# Altium footprint library light_driver.PcbLib: 26 footprints (part 1 of 2)
Each footprint in its own frame and in the unit in brackets; x right, y up, seen from the top. Pads: shape width x height; smd on the part's side, far side on the other; paste and mask are expansions set on the pad; w line width, h text height; cw(c..) or ccw(c..) is an arc to the next point about the centre after c.
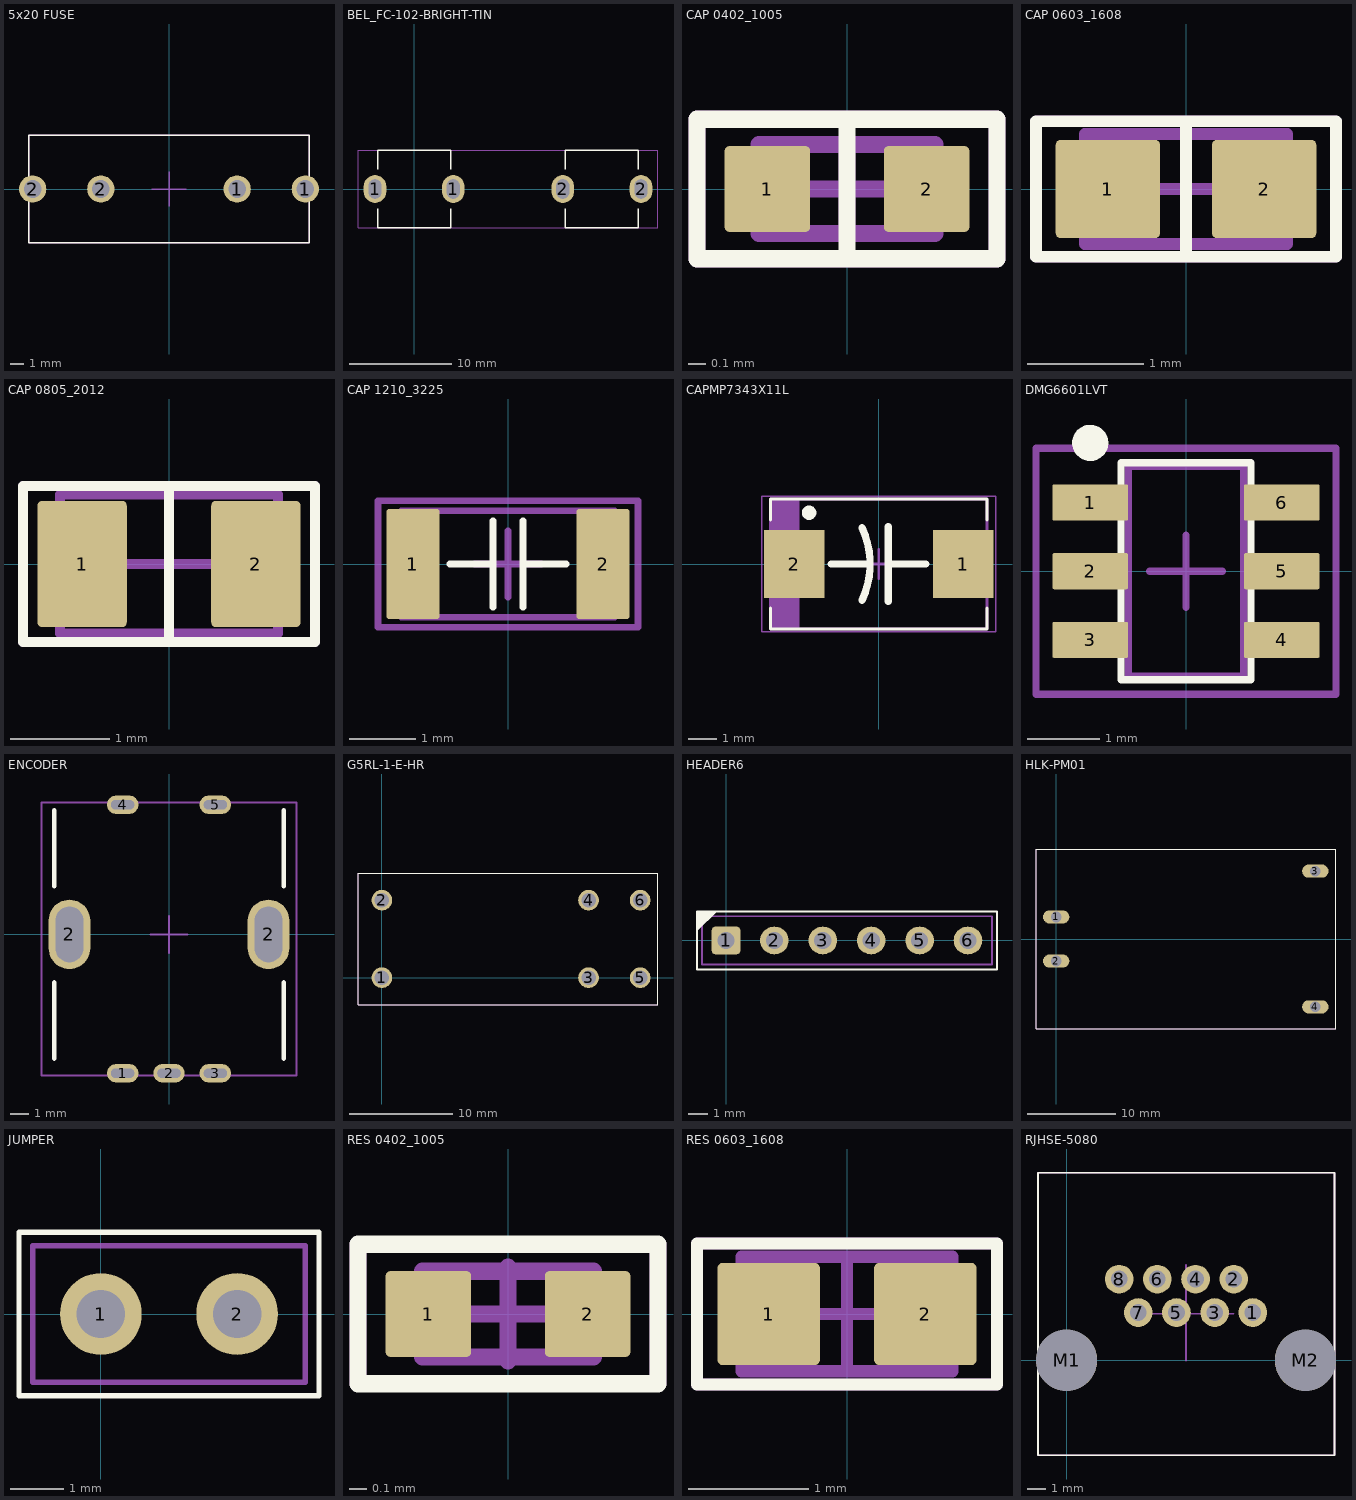
[diagram p0: the footprints below, top view; thin cyan lines are the x and y axes]

## 5x20 FUSE [mm] "5x20 FUSE, 5A, 240v, speed F"
height 8
pads (4):
  round 2 hole 1.3: 1(5,0) 1(10,0) 2(-10,0) 2(-5,0)
Top Overlay:
  lines w0.102: -10.287,-3.937 -10.287,3.937 10.287,3.937 10.287,-3.937 -10.287,-3.937
Top Assembly:
  lines w0.102: -1.27,0 1.27,0 ; 0,-1.27 0,1.27 ; -10.287,-3.937 10.287,-3.937 10.287,3.937 -10.287,3.937 -10.287,-3.937
Top Courtyard:
  lines w0.102: -10.287,-3.937 10.287,-3.937 10.287,3.937 -10.287,3.937 -10.287,-3.937
3D body "User Library-FUSIVEL.step": height 10.75, standoff 5.75, extent -10,-2.5 10,2.5
3D body "User Library-FUSECLIP.step": height 11.42, standoff -3, extent -10.302,-3.869 -4.698,3.869
3D body "User Library-FUSECLIP.step": height 11.42, standoff -3, extent 4.698,-3.869 10.302,3.869

## BEL_FC-102-BRIGHT-TIN [mm]
pads (4):
  oval 2.2x2.7 hole 1.88 slot 1.25 at 0 deg: 1(-3.81,0) 1(3.81,0) 2(14.478,0) 2(22.098,0)
Top Overlay:
  lines w0.127: -3.556,-1.92 -3.556,-3.75 3.556,-3.75 3.556,-1.92 ; -3.556,1.92 -3.556,3.75 3.556,3.75 3.556,1.92 ; 14.732,-1.92 14.732,-3.75 21.844,-3.75 21.844,-1.92 ; 14.732,1.92 14.732,3.75 21.844,3.75 21.844,1.92
Top Assembly:
  lines w0.05: -5.47,-3.75 23.75,-3.75 23.75,3.75 -5.47,3.75 -5.47,-3.75
Top Courtyard:
  lines w0.05: -5.47,-3.75 23.75,-3.75 23.75,3.75 -5.47,3.75 -5.47,-3.75
3D body "inch_fuse.step": height 10.74, standoff 4.24, extent -3.324,-3.25 21.596,3.25
3D body "User Library-FC-102-22.step": height 10.9, standoff -3.45, extent -4.064,-3.683 4.064,3.683
3D body "User Library-FC-102-22.step": height 10.9, standoff -3.45, extent 14.224,-3.683 22.352,3.683

## CAP 0402_1005 [mm] "Chip Capacitor, 2-Leads, Body 1.02x0.51mm, IPC Medium Density"
height 0.52
pads (2):
  rrect10% 0.5x0.5 smd: 1(-0.465,0) 2(0.465,0)
Top Overlay:
  lines w0.102: 0,-0.406 0,0.406 ; -0.876,-0.406 -0.876,0.406 0.876,0.406 0.876,-0.406 -0.876,-0.406
Top Assembly:
  lines w0.1: -0.515,-0.26 -0.515,0.26 0.515,0.26 0.515,-0.26 -0.515,-0.26
Top Courtyard:
  lines w0.1: -0.26,0 0.26,0 ; 0,-0.26 0,0.26
  lines w0.102: -0.876,-0.406 0.876,-0.406 0.876,0.406 -0.876,0.406 -0.876,-0.406
3D body "0402 cap.STEP": height 0.52, standoff 0, extent -0.5,-0.262 0.5,0.262

## CAP 0603_1608 [mm] "Chip Capacitor, 2-Leads, Body 1.60x0.80mm, IPC Medium Density"
height 0.89
pads (2):
  rrect10% 0.9x0.85 smd: 1(-0.675,0) 2(0.675,0)
Top Overlay:
  lines w0.102: 0,-0.584 0,0.584 ; -1.295,-0.584 1.295,-0.584 1.295,0.584 -1.295,0.584 -1.295,-0.584
Top Assembly:
  lines w0.102: -0.875,-0.475 0.875,-0.475 0.875,0.475 -0.875,0.475 -0.875,-0.475
Top Courtyard:
  lines w0.102: -0.475,0 0.475,0 ; 0,-0.475 0,0.475 ; -1.295,-0.584 1.295,-0.584 1.295,0.584 -1.295,0.584 -1.295,-0.584
3D body "0603 cap.STEP": height 0.82, standoff 0, extent -0.8,-0.412 0.8,0.412

## CAP 0805_2012 [mm] "Chip Capacitor, 2-Leads, Body 2.00x1.20mm, IPC Medium Density"
height 1.15
pads (2):
  rrect10% 0.9x1.275 smd: 1(-0.876,0) 2(0.876,0)
Top Overlay:
  lines w0.102: 0,-0.787 0,0.787 ; -1.473,-0.787 1.473,-0.787 1.473,0.787 -1.473,0.787 -1.473,-0.787
Top Assembly:
  lines w0.1: -1.1,-0.7 1.1,-0.7 1.1,0.7 -1.1,0.7 -1.1,-0.7
Top Courtyard:
  lines w0.1: -0.5,0 0.5,0 ; 0,-0.5 0,0.5
  lines w0.102: -1.473,-0.787 -1.473,0.787 1.473,0.787 1.473,-0.787 -1.473,-0.787
3D body "0805 cap.STEP": height 1.26, standoff -0.02, extent -1,-0.637 1,0.637

## CAP 1210_3225 [mm] "Chip Capacitor, 2-Leads, Body 3.20x1.60mm, IPC High Density"
height 1.2
pads (2):
  rrect10% 0.8x1.65 smd: 1(-1.425,0) 2(1.425,0)
Top Overlay:
  lines w0.102: -0.875,0 -0.225,0 ; -0.225,-0.65 -0.225,0.65 ; 0.225,-0.65 0.225,0.65 ; 0.225,0 0.875,0
Top Assembly:
  lines w0.102: -1.6,-0.8 1.6,-0.8 1.6,0.8 -1.6,0.8 -1.6,-0.8
Top Courtyard:
  lines w0.102: -0.5,0 0.5,0 ; 0,-0.5 0,0.5 ; -1.95,-0.95 1.95,-0.95 1.95,0.95 -1.95,0.95 -1.95,-0.95
3D body "CAPC3216X12L.step": height 1.2, standoff 0, extent -1.6,-0.8 1.6,0.8

## CAPMP7343X11L [mm] "Molded Capacitor, 2-Leads, Body 7.30x4.30mm, IPC High Density"
height 1.1
pads (2):
  rrect1% 2.1x2.35 smd: 1(2.925,0) 2(-2.925,0)
Top Overlay:
  circle w0.25: c-2.413,1.778 r0.125
  lines w0.102: -3.75,-1.526 -3.75,-2.25 3.75,-2.25 3.75,-1.526 ; -3.75,1.526 -3.75,2.25 3.75,2.25 3.75,1.526
  lines w0.254: -1.65,0 -0.3,0 ; -0.581,-1.268 ccw(c-3.3,0) -0.581,1.268 ; 0.325,-1.3 0.325,1.3 ; 0.325,0 1.625,0
Top Assembly:
  rectangle: -3.75,-2.25 -2.741,2.25
  lines w0.1: -3.75,-2.25 -3.75,2.25 3.75,2.25 3.75,-2.25 -3.75,-2.25
Top Courtyard:
  lines w0.05: -4.05,-2.35 -4.05,2.35 4.05,2.35 4.05,-2.35 -4.05,-2.35
  lines w0.1: -0.5,0 0.5,0 ; 0,-0.5 0,0.5
3D body "CAPMP7343X11L.step": height 1.1, standoff 0, extent -3.97,-2.25 3.97,2.25

## DMG6601LVT [mm]
height 1
pads (6):
  rrect10% 1.05x0.5 smd: 1(-1.325,0.95) 2(-1.325,0) 3(-1.325,-0.95) 4(1.325,-0.95) 5(1.325,0) 6(1.325,0.95)
Top Overlay:
  circle w0.25: c-1.325,1.775 r0.125
  lines w0.102: -0.9,-1.5 -0.9,1.5 0.9,1.5 0.9,-1.5 -0.9,-1.5
Top Assembly:
  lines w0.102: -0.8,-1.45 0.8,-1.45 0.8,1.45 -0.8,1.45 -0.8,-1.45
Top Courtyard:
  lines w0.1: -0.5,0 0.5,0 ; 0,-0.5 0,0.5
  lines w0.102: -2.075,-1.7 2.075,-1.7 2.075,1.7 -2.075,1.7 -2.075,-1.7
3D body "DMG6601LVT.step": height 1, standoff 0, extent -1.4,-1.45 1.4,1.45

## ENCODER [mm] "Rotary encoder"
pads (7):
  oval 1.7x1 hole 0.5 slot 1.25 at 0 deg: 1(-2.5,-7.5) 2(0,-7.5) 3(2.5,-7.5) 4(-2.5,7) 5(2.5,7)
  rrect100% 2.25x3.75 hole 1.5 slot 3 at 90 deg: 2(-5.375,0)
  oval 2.25x3.75 hole 1.5 slot 3 at 90 deg: 2(5.375,0)
Top Overlay:
  lines w0.254: -6.2,-6.7 -6.2,-2.6 ; -6.2,2.6 -6.2,6.7 ; 6.2,-6.7 6.2,-2.6 ; 6.2,2.6 6.2,6.7
Top Assembly:
  lines w0.102: -1,0 1,0 ; 0,-1 0,1 ; -6.875,-7.625 6.875,-7.625 6.875,7.125 -6.875,7.125 -6.875,-7.625
Top Courtyard:
  lines w0.102: -6.875,-7.625 -6.875,7.125 6.875,7.125 6.875,-7.625 -6.875,-7.625
3D body "rotary_encoder.STEP": height 21.4, standoff -3.7, extent -6.156,-7.747 6.144,7.253

## G5RL-1-E-HR [mm] "16A 240v relay 5v coil 62.5ohm"
pads (6):
  round 2 hole 1.4: 1(0,0) 2(0,7.5) 3(20,0) 4(20,7.5) 5(25,0) 6(25,7.5)
Top Overlay:
  lines w0.102: -2.311,-2.616 26.721,-2.616 26.721,10.109 -2.311,10.109 -2.311,-2.616
Top Assembly:
  lines w0.102: -2.311,-2.616 26.721,-2.616 26.721,10.109 -2.311,10.109 -2.311,-2.616
Top Courtyard:
  lines w0.102: -2.311,-2.616 26.721,-2.616 26.721,10.109 -2.311,10.109 -2.311,-2.616
3D body "G5RL_1A_E_HR.step": height 15.7, standoff -3.5, extent -2.3,-2.6 26.7,10.1

## HEADER6 [mm] "6 pin 2.54mm header"
pads (6):
  rrect25% 1.5x1.45 hole 0.9: 1(0,0)
  oval 1.5x1.45 hole 0.9: 2(2.54,0) 3(5.08,0) 4(7.62,0) 5(10.16,0) 6(12.7,0)
Top Overlay:
  region: -0.635,1.676
  region: -1.5,1.5 -0.5,1.5 -1.5,0.5
  lines w0.102: -1.524,-1.524 14.224,-1.524 14.224,1.524 -1.524,1.524 -1.524,-1.524
Top Assembly:
  lines w0.102: -1.27,-1.27 -1.27,1.27 13.97,1.27 13.97,-1.27 -1.27,-1.27
Top Courtyard:
  lines w0.102: -1.27,-1.27 13.97,-1.27 13.97,1.27 -1.27,1.27 -1.27,-1.27
3D body "Header, Male, 2.54mm, 1x6.STEP": height 8.54, standoff -3, extent -1.27,-1.27 13.97,1.27

## HLK-PM01 [mm] "5V PSU"
pads (4):
  oval 3x1.5 hole 1.2: 1(0,2.5) 2(0,-2.5) 3(29.4,7.7) 4(29.4,-7.7)
Top Overlay:
  lines w0.102: -2.286,-10.16 -2.286,10.16 31.75,10.16 31.75,-10.16 -2.286,-10.16
Top Assembly:
  lines w0.102: -2.286,-10.16 -2.286,10.16 31.75,10.16 31.75,-10.16 -2.286,-10.16
Top Courtyard:
  lines w0.102: -2.286,-10.16 -2.286,10.16 31.75,10.16 31.75,-10.16 -2.286,-10.16
3D body "hlk-pm01.step": height 15, standoff -5, extent -2.3,-10.1 31.7,10.1

## JUMPER [mil] "2 pin 2.54mm jumper"
pads (2):
  round 60 hole 35.43: 1(0,0) 2(100,0)
Top Overlay:
  lines w4: -60,-60 160,-60 160,60 -60,60 -60,-60
Top Assembly:
  lines w4: -50,-50 -50,50 150,50 150,-50 -50,-50
Top Courtyard:
  lines w4: -50,-50 -50,50 150,50 150,-50 -50,-50
3D body "Header, Male, 2.54mm, 1x2.STEP": height 336.22, standoff -118.11, extent -50,-50 150,50

## RES 0402_1005 [mm] "Chip Resistor, 2-Leads, Body 1.0x0.5mm, IPC Medium Density"
height 0.4
pads (2):
  rrect10% 0.5x0.5 smd: 1(-0.465,0) 2(0.465,0)
Top Overlay:
  lines w0.102: -0.876,-0.406 0.876,-0.406 0.876,0.406 -0.876,0.406 -0.876,-0.406
Top Assembly:
  lines w0.1: -0.5,-0.25 0.5,-0.25 0.5,0.25 -0.5,0.25 -0.5,-0.25
Top Courtyard:
  lines w0.1: -0.275,0 0.275,0 ; 0,-0.275 0,0.275 ; -0.876,-0.406 0.876,-0.406 0.876,0.406 -0.876,0.406 -0.876,-0.406
3D body "0402 resistor.STEP": height 0.35, standoff 0, extent -0.5,-0.25 0.5,0.25

## RES 0603_1608 [mm] "Chip Resistor, 2-Leads, Body 1.60x0.80mm, IPC Medium Density"
height 0.45
pads (2):
  rrect10% 0.85x0.85 smd: 1(-0.65,0) 2(0.65,0)
Top Overlay:
  lines w0.102: -1.245,-0.584 -1.245,0.584 1.245,0.584 1.245,-0.584 -1.245,-0.584
Top Assembly:
  lines w0.1: -0.875,-0.475 0.875,-0.475 0.875,0.475 -0.875,0.475 -0.875,-0.475
Top Courtyard:
  lines w0.102: -0.475,0 0.475,0 ; 0,-0.475 0,0.475 ; -1.245,-0.584 1.245,-0.584 1.245,0.584 -1.245,0.584 -1.245,-0.584
3D body "0603 resistor.STEP": height 0.45, standoff 0, extent -0.8,-0.4 0.8,0.4

## RJHSE-5080 [mil] "RJ45 Jack"
pads (10):
  round 60 hole 35: 1(390,100) 2(350,170) 3(310,100) 4(270,170) 5(230,100) 6(190,170) 7(150,100) 8(110,170)
  round 128 hole 128 unplated: M1(0,0) M2(500,0)
Top Overlay:
  lines w4: -60.04,-198.82 561.02,-198.82 561.02,392.72 -60.04,392.72 -60.04,-198.82
Top Assembly:
  lines w4: 150,97.5 350,97.5 ; 250,0 250,200 ; -60.04,-198.82 -60.04,392.72 561.02,392.72 561.02,-198.82 -60.04,-198.82
Top Courtyard:
  lines w4: -60.04,-198.82 -60.04,392.72 561.02,392.72 561.02,-198.82 -60.04,-198.82
3D body "Amphenol-RJHSE-5080.STEP": height 505.94, standoff -136.06, extent -59.47,-197.98 560.53,392.02